# Altium footprint library LDQ-M512RI.PcbLib: 1 footprints
Each footprint in its own frame and in the unit in brackets; x right, y up, seen from the top. Pads: shape width x height; smd on the part's side, far side on the other; paste and mask are expansions set on the pad; w line width, h text height; cw(c..) or ccw(c..) is an arc to the next point about the centre after c.
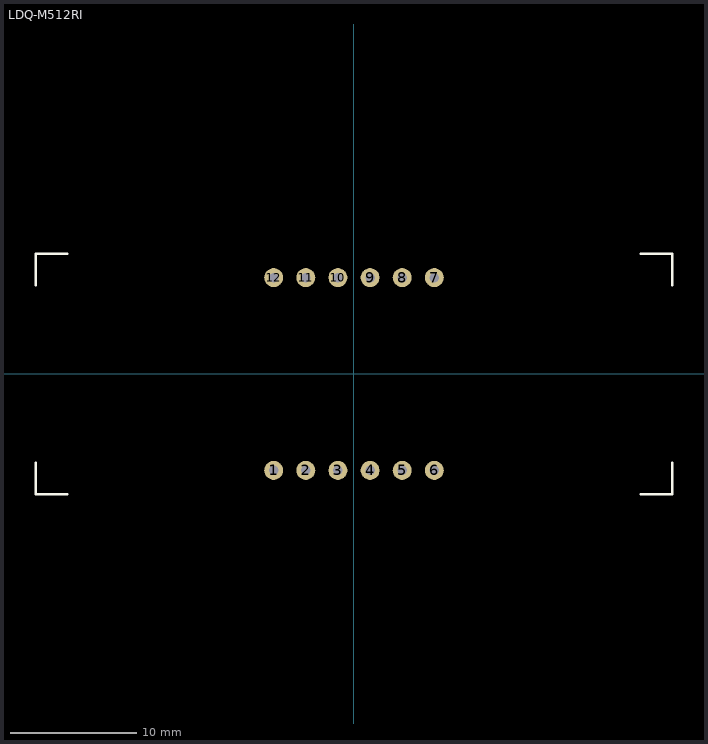
[diagram p0: the footprint, top view; thin cyan lines are the x and y axes]

## LDQ-M512RI [mm] "Lumex Quad 7-Segment Display"
pads (12):
  round 1.5 hole 0.75 unplated: 1(-6.35,-7.62) 2(-3.81,-7.62) 3(-1.27,-7.62) 4(1.27,-7.62) 5(3.81,-7.62) 6(6.35,-7.62) 7(6.35,7.62) 8(3.81,7.62) 9(1.27,7.62) 10(-1.27,7.62) 11(-3.81,7.62) 12(-6.35,7.62)
Top Overlay:
  lines w0.2: -25.15,-7 -25.15,-9.5 -22.65,-9.5 ; -25.15,7 -25.15,9.5 -22.65,9.5 ; 22.65,-9.5 25.15,-9.5 25.15,-7 ; 22.65,9.5 25.15,9.5 25.15,7
3D body: height 8, standoff 0, extent -25.15,-9.5 25.15,9.5